# Altium schematic symbol library C322C111JDG5TA.SchLib: 2 symbols
Pins are listed as number, name and electrical type; pins without a type are passive.

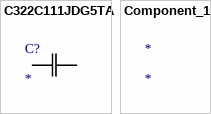
[diagram p0: symbols C322C111JDG5TA to Component_1]

## C322C111JDG5TA
designator C?
No Description Available; Mfr_Name: Kemet
footprint CAP_C322C511_MR_KEM
pins: 1, 2

## Component_1
designator *